# EAGLE library part LTC3621 (library Ava)
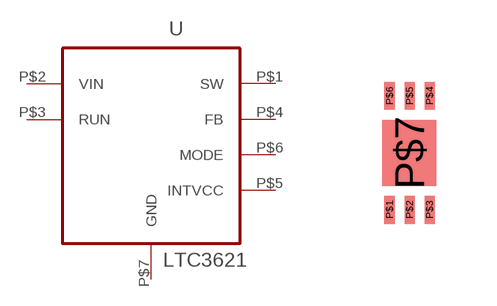
[diagram p31: symbol with the pads of LTC_DWG_05-08-1715_REV_A; footprint LTC_DWG_05-08-1715_REV_A]

Designator prefix -

## LTC3621  [LTC_DWG_05-08-1715_REV_A]
P$1  SW  out
P$2  VIN  pwr
P$3  RUN  pas
P$4  FB  in
P$5  INTVCC  pas
P$6  MODE  in
P$7  GND  pas

## Footprint LTC_DWG_05-08-1715_REV_A (pad centres in mm)
smd 0.25 x 0.7: P$1 -0.5,-1.425; P$2 0,-1.425; P$3 0.5,-1.425; P$4 0.5,1.425; P$5 0,1.425; P$6 -0.5,1.425
smd 1.35 x 1.65: P$7 0,0